# EAGLE library part AK130/17 (library PTR_AK130)
ANSCHLUSSKLEMME AK130 (17POLIG)
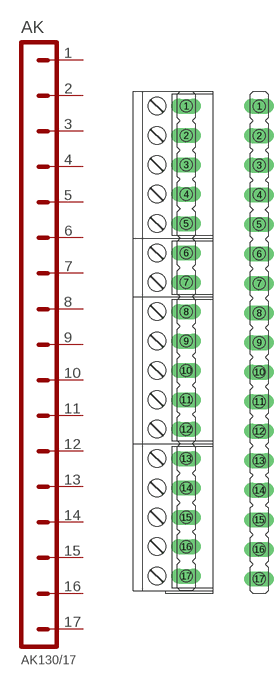
[diagram p11: symbol with the pads of AK17; footprints AK17, STL17]

Designator prefix AK

## AK130/17  [AK17]
1  P$1
2  P$2
3  P$3
4  P$4
5  P$5
6  P$6
7  P$7
8  P$8
9  P$9
10  P$10
11  P$11
12  P$12
13  P$13
14  P$14
15  P$15
16  P$16
17  P$17

## AK130/17_STL  [STL17]
Pads as for AK17

## Footprint AK17 (pad centres in mm)
AK130 (17POLIG) 1x AK130/2-5.0-GRAU 3x AK130/5-5.0-GRAU STL130/24-5.0-V-SCHWARZ
drill 1.5 pad 2.54 long: 1 0,40; 2 0,35; 3 0,30; 4 0,25; 5 0,20; 6 0,15; 7 0,10; 8 0,5; 9 0,0; 10 0,-5; 11 0,-10; 12 0,-15; 13 0,-20; 14 0,-25; 15 0,-30; 16 0,-35; 17 0,-40

## Footprint STL17 (pad centres in mm)
STL130 (17POLIG) STL130/24-5.0-V-SCHWARZ
drill 1.5 pad 2.54 long: 1 0,40; 2 0,35; 3 0,30; 4 0,25; 5 0,20; 6 0,15; 7 0,10; 8 0,5; 9 0,0; 10 0,-5; 11 0,-10; 12 0,-15; 13 0,-20; 14 0,-25; 15 0,-30; 16 0,-35; 17 0,-40